# EAGLE library part FFC-15P-1MM (library PiezoFFC)
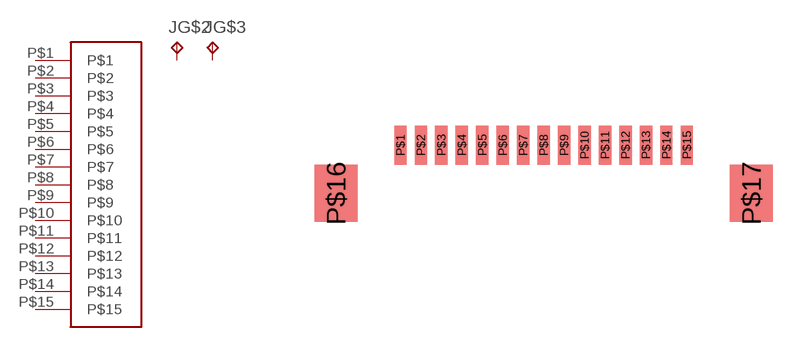
[diagram p19: symbol with the pads of FFC-15P-1MM; footprint FFC-15P-1MM]

Designator prefix J; gates G$1=FFC-15P-1MM G$2=TP G$3=TP

## FFC-15P-1MM  [FFC-15P-1MM]
P$1  G$1:P$1
P$2  G$1:P$2
P$3  G$1:P$3
P$4  G$1:P$4
P$5  G$1:P$5
P$6  G$1:P$6
P$7  G$1:P$7
P$8  G$1:P$8
P$9  G$1:P$9
P$10  G$1:P$10
P$11  G$1:P$11
P$12  G$1:P$12
P$13  G$1:P$13
P$14  G$1:P$14
P$15  G$1:P$15
P$16  G$2:TP  in
P$17  G$3:TP  in

## Footprint FFC-15P-1MM (pad centres in mm)
smd 0.6 x 1.9: P$1 0,0; P$2 1,0; P$3 2,0; P$4 3,0; P$5 4,0; P$6 5,0; P$7 6,0; P$8 7,0; P$9 8,0; P$10 9,0; P$11 10,0; P$12 11,0; P$13 12,0; P$14 13,0; P$15 14,0
smd 2.1 x 2.8: P$16 -3.15,-2.35; P$17 17.15,-2.35